# Altium schematic symbol library D_SCHOTTKY.SchLib: 1 symbol
Pins are listed as number, name and electrical type; pins without a type are passive.

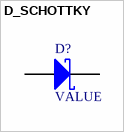
[diagram p0: symbol D_SCHOTTKY]

## D_SCHOTTKY
designator D?, comment Diode  (value not drawn)
VALUE: VALUE
pins: 1, 2